# Altium integrated library LM358N_NOPB.IntLib: 1 symbol
Pins are listed as number, name and electrical type; pins without a type are passive.

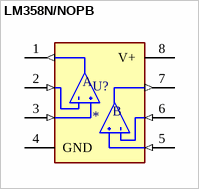
[diagram p0: symbol LM358N/NOPB]

## LM358N/NOPB
designator U?
<a href="https://snapeda.com/parts/LM358N/NOPB/Texas%20Instruments/view-part/?ref=eda">Check prices</a>; Price: None; MP: LM358N/NOPB; Value: *; Availability: Unavailable; Package: None
footprint DIP794W45P254L959H508Q8
pins: 1 OUTA (out), 2 -INA (in), 3 +INA (in), 4 GND (power), 5 +INB (in), 6 -INB (in), 7 OUTB (out), 8 V+ (power)
text: A; B